# Altium integrated library ES1G.IntLib: 1 symbol
Pins are listed as number, name and electrical type; pins without a type are passive.

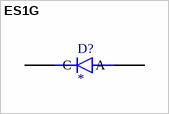
[diagram p0: symbol ES1G]

## ES1G
designator D?
Diode Standard 400 V 1A Surface Mount DO-214AC (SMA); MF: ON; MP: ES1G; SnapEDA_Link: https://www.snapeda.com/parts/ES1G/Onsemi/view-part/?ref=snap; Package: SMA-2 ON Semiconductor; Value: *; Check_prices: https://www.snapeda.com/parts/ES1G/Onsemi/view-part/?ref=eda
footprint DIOM4226X244N
pins: 1 C, 2 A